# EAGLE library part XR-8038 (library exar)
Precision WAVEFORM GENERATOR
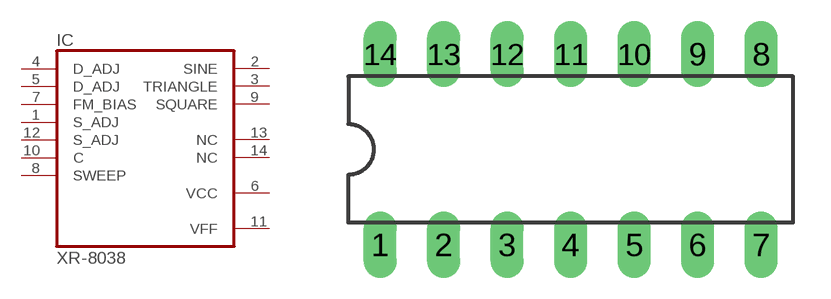
[diagram p10: symbol with the pads of DIL14; footprint DIL14]

Designator prefix IC

## XR-8038 (OC_FARNELL: unknown; OC_NEWARK: unknown)  [DIL14]
1  S_ADJ  in
2  SINE  out
3  TRIANGLE  out
4  D_ADJ  in
5  D_ADJ  in
6  VCC  pwr
7  FM_BIAS  in
8  SWEEP  in
9  SQUARE  out
10  C  in
11  VFF  pwr
12  S_ADJ  in
13  NC  nc
14  NC  nc

## Footprint DIL14 (pad centres in mm)
Dual In Line Package
drill 0.813 long: 1 -7.62,-3.81; 2 -5.08,-3.81; 3 -2.54,-3.81; 4 0,-3.81; 5 2.54,-3.81; 6 5.08,-3.81; 7 7.62,-3.81; 8 7.62,3.81; 9 5.08,3.81; 10 2.54,3.81; 11 0,3.81; 12 -2.54,3.81; 13 -5.08,3.81; 14 -7.62,3.81